# Altium footprint library QiTian Mini Remote Control.PcbLib: 10 footprints
Each footprint in its own frame and in the unit in brackets; x right, y up, seen from the top. Pads: shape width x height; smd on the part's side, far side on the other; paste and mask are expansions set on the pad; w line width, h text height; cw(c..) or ccw(c..) is an arc to the next point about the centre after c.
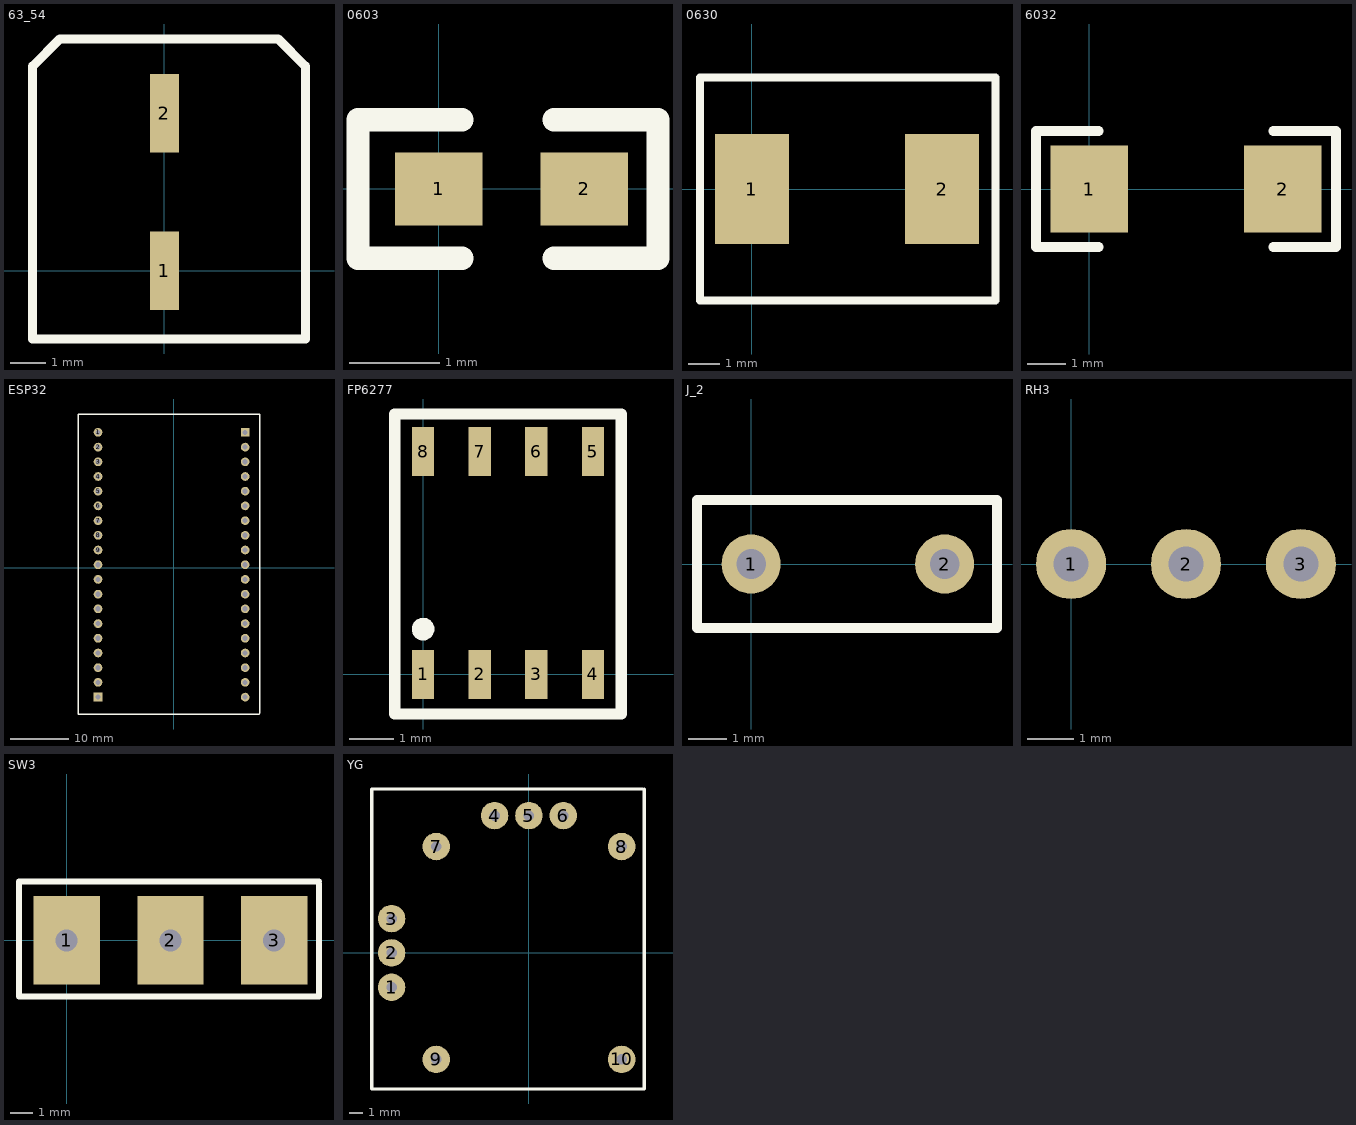
[diagram p0: the footprints below, top view; thin cyan lines are the x and y axes]

## 63_54 [mm] "6.3*5.4mm电容"
height 5.4
pads (2):
  rect 0.8x2.2 smd: 1(0,0) 2(0,4.4)
Top Overlay:
  lines w0.254: -3.683,-1.905 -3.683,5.715 -2.921,6.477 3.175,6.477 3.937,5.715 3.937,-1.905 -3.683,-1.905

## 0603 [mm] "0603封装"
height 0.5
pads (2):
  rect 0.965x0.8 smd: 1(0,0) 2(1.6,0)
Top Overlay:
  lines w0.254: 0.254,-0.762 -0.889,-0.762 -0.889,0.762 0.254,0.762 ; 1.27,-0.762 2.413,-0.762 2.413,0.762 1.27,0.762

## 0630 [mm]
height 3
pads (2):
  rect 2.35x3.5 smd: 1(0,0) 2(6.05,0)
Top Overlay:
  lines w0.254: -1.651,-3.556 7.747,-3.556 7.747,3.556 -1.651,3.556 -1.651,-3.556

## 6032 [mm]
pads (2):
  rect 2.03x2.28 smd: 1(0,0) 2(5.08,0)
Top Overlay:
  lines w0.254: 0.254,-1.524 -1.397,-1.524 -1.397,1.524 0.254,1.524 ; 4.826,-1.524 6.477,-1.524 6.477,1.524 4.826,1.524

## ESP32 [mm] "ESP 开发底板"
pads (38):
  round 1.5 hole 0.9: 1(-13.081,23.368) 2(-13.081,20.828) 3(-13.081,18.288) 4(-13.081,15.748) 5(-13.081,13.208) 6(-13.081,10.668) 7(-13.081,8.128) 8(-13.081,5.588) 9(-13.081,3.048) 10(-13.081,0.508) 11(-13.081,-2.032) 12(-13.081,-4.572) 13(-13.081,-7.112) 14(-13.081,-9.652) 15(-13.081,-12.192) 16(-13.081,-14.732) 17(-13.081,-17.272) 18(-13.081,-19.812) 20(12.319,-22.352) 21(12.319,-19.812) 22(12.319,-17.272) 23(12.319,-14.732) 24(12.319,-12.192) 25(12.319,-9.652) 26(12.319,-7.112) 27(12.319,-4.572) 28(12.319,-2.032) 29(12.319,0.508) 30(12.319,3.048) 31(12.319,5.588) 32(12.319,8.128) 33(12.319,10.668) 34(12.319,13.208) 35(12.319,15.748) 36(12.319,18.288) 37(12.319,20.828)
  rect 1.5x1.5 hole 0.9: 19(-13.081,-22.352) 38(12.319,23.368)
Top Overlay:
  lines w0.254: -16.51,-25.273 14.732,-25.273 14.859,-25.146 14.859,26.543 -16.51,26.543 -16.51,-25.273

## FP6277 [mm]
pads (8):
  rect 0.5x1.1 smd: 1(0,0) 2(1.27,0) 3(2.54,0) 4(3.81,0) 5(3.81,5) 6(2.54,5) 7(1.27,5) 8(0,5)
Top Overlay:
  circle w0.254: c0,1.016 r0.127
  lines w0.254: -0.635,-0.889 -0.635,5.842 4.445,5.842 4.445,-0.889 -0.635,-0.889

## J_2 [mil] "2端口接口"
pads (2):
  round 60 hole 30: 1(0,0) 2(196.85,0)
Top Overlay:
  lines w10: -55,-65 -55,65 250,65 250,-65 -55,-65

## RH3 [mil]
pads (3):
  round 60 hole 30: 1(0,0) 2(98.43,0) 3(196.85,0)

## SW3 [mm]
pads (3):
  rect 3x4 hole 1 square: 1(0,0) 2(4.7,0) 3(9.4,0)
Top Overlay:
  lines w0.254: 11.43,2.54 11.43,-2.54 -2.159,-2.54 -2.159,2.667 11.43,2.667

## YG [mm]
pads (10):
  round 2 hole 0.762: 1(-10,-2.5) 2(-10,0) 3(-10,2.5) 4(-2.5,10) 5(0,10) 6(2.5,10) 7(-6.75,7.75) 8(6.75,7.75) 9(-6.75,-7.75) 10(6.75,-7.75)
Top Overlay:
  lines w0.254: 8.255,11.938 -11.43,11.938 -11.43,-9.906 8.382,-9.906 8.382,11.938